# Altium footprint library AUDIO-TH_PJ-321B.PcbLib: 1 footprints
Each footprint in its own frame and in the unit in brackets; x right, y up, seen from the top. Pads: shape width x height; smd on the part's side, far side on the other; paste and mask are expansions set on the pad; w line width, h text height; cw(c..) or ccw(c..) is an arc to the next point about the centre after c.
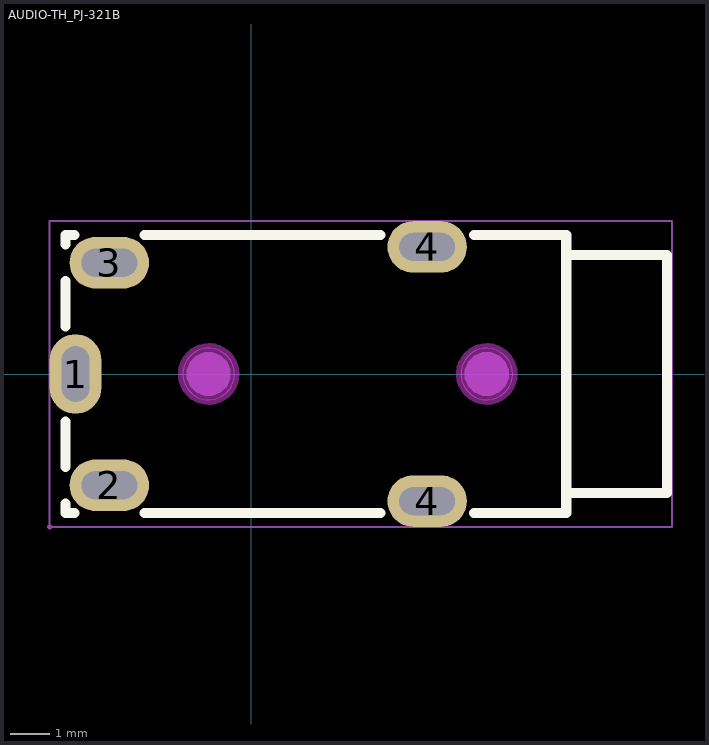
[diagram p0: the footprint, top view; thin cyan lines are the x and y axes]

## AUDIO-TH_PJ-321B [mm]
pads (5):
  oval 1.3x2 hole 0.7 slot 1.4 at 90 deg: 1(-4.425,0)
  oval 2x1.3 hole 0.7 slot 1.4 at 0 deg: 2(-3.575,-2.8) 3(-3.575,2.8) 4(4.425,-3.2) 4(4.425,3.2)
Top Overlay:
  lines w0.254: -4.675,-3.26 -4.675,-3.5 -4.459,-3.5 ; -4.675,-2.34 -4.675,-1.195 ; -4.675,1.195 -4.675,2.34 ; -4.675,3.26 -4.675,3.5 -4.459,3.5 ; -2.692,-3.5 3.247,-3.5 ; -2.692,3.5 3.247,3.5 ; 5.603,-3.5 7.925,-3.5 7.925,3.5 5.603,3.5 ; 7.925,-3 10.465,-3 10.465,3 7.925,3
Keep-Out Layer:
  board cut-out: -0.425,0 -0.425,0.086 -0.469,0.251 -0.555,0.399 -0.676,0.52 -0.824,0.606 -0.99,0.65 -1.161,0.65 -1.326,0.606 -1.474,0.52 -1.595,0.399 -1.681,0.251 -1.725,0.086 -1.725,0 -1.725,-0.086 -1.681,-0.251 -1.595,-0.399 -1.474,-0.52 -1.326,-0.606 -1.161,-0.65 -0.989,-0.65 -0.824,-0.606 -0.676,-0.52 -0.555,-0.399 -0.469,-0.251 -0.425,-0.086 -0.425,0
  board cut-out: 6.575,0 6.575,0.086 6.531,0.251 6.445,0.399 6.324,0.52 6.176,0.606 6.01,0.65 5.839,0.65 5.674,0.606 5.526,0.52 5.405,0.399 5.319,0.251 5.275,0.086 5.275,0 5.275,-0.086 5.319,-0.251 5.405,-0.399 5.526,-0.52 5.674,-0.606 5.839,-0.65 6.011,-0.65 6.176,-0.606 6.324,-0.52 6.445,-0.399 6.531,-0.251 6.575,-0.086 6.575,0
Keep-Out Layer:
  circle w0.254: c-1.075,0 r0.65
  circle w0.025: c-1.075,0 r0.65
  circle w0.254: c5.925,0 r0.65
  circle w0.025: c5.925,0 r0.65
Mechanical 1:
  circle w0.025: c-1.075,0 r0.65
  circle w0.025: c5.925,0 r0.65
Mechanical 15:
  region: 4.775,-3.48 4.075,-3.48 4.075,-2.92 4.775,-2.92
  region: 4.775,2.92 4.075,2.92 4.075,3.48 4.775,3.48
  region: -3.225,2.52 -3.925,2.52 -3.925,3.08 -3.225,3.08
  region: -3.225,-3.08 -3.925,-3.08 -3.925,-2.52 -3.225,-2.52
  region: -4.705,-0.35 -4.705,0.35 -4.145,0.35 -4.145,-0.35
  region: -5.015,-3.85 -5.015,-3.825 -5.05,-3.79 -5.1,-3.79 -5.135,-3.825 -5.135,-3.85 -5.135,-3.875 -5.1,-3.91 -5.05,-3.91 -5.015,-3.875 -5.015,-3.85
  region: -0.525,0 -0.526,0.109 -0.611,0.309 -0.765,0.462 -0.966,0.545 -1.184,0.545 -1.385,0.462 -1.539,0.309 -1.624,0.109 -1.625,0 -1.624,-0.109 -1.539,-0.309 -1.385,-0.462 -1.184,-0.545 -0.966,-0.545 -0.765,-0.462 -0.611,-0.309 -0.526,-0.109 -0.525,0
  region: 6.475,0 6.474,0.109 6.389,0.309 6.235,0.462 6.034,0.545 5.816,0.545 5.615,0.462 5.461,0.309 5.376,0.109 5.375,0 5.376,-0.109 5.461,-0.309 5.615,-0.462 5.816,-0.545 6.034,-0.545 6.235,-0.462 6.389,-0.309 6.474,-0.109 6.475,0
  lines w0.051: -5.075,-3.85 -5.075,3.85 10.592,3.85 10.592,-3.85 -5.075,-3.85